# Altium footprint library Vishay.PcbLib: 7 footprints
Each footprint in its own frame and in the unit in brackets; x right, y up, seen from the top. Pads: shape width x height; smd on the part's side, far side on the other; paste and mask are expansions set on the pad; w line width, h text height; cw(c..) or ccw(c..) is an arc to the next point about the centre after c.
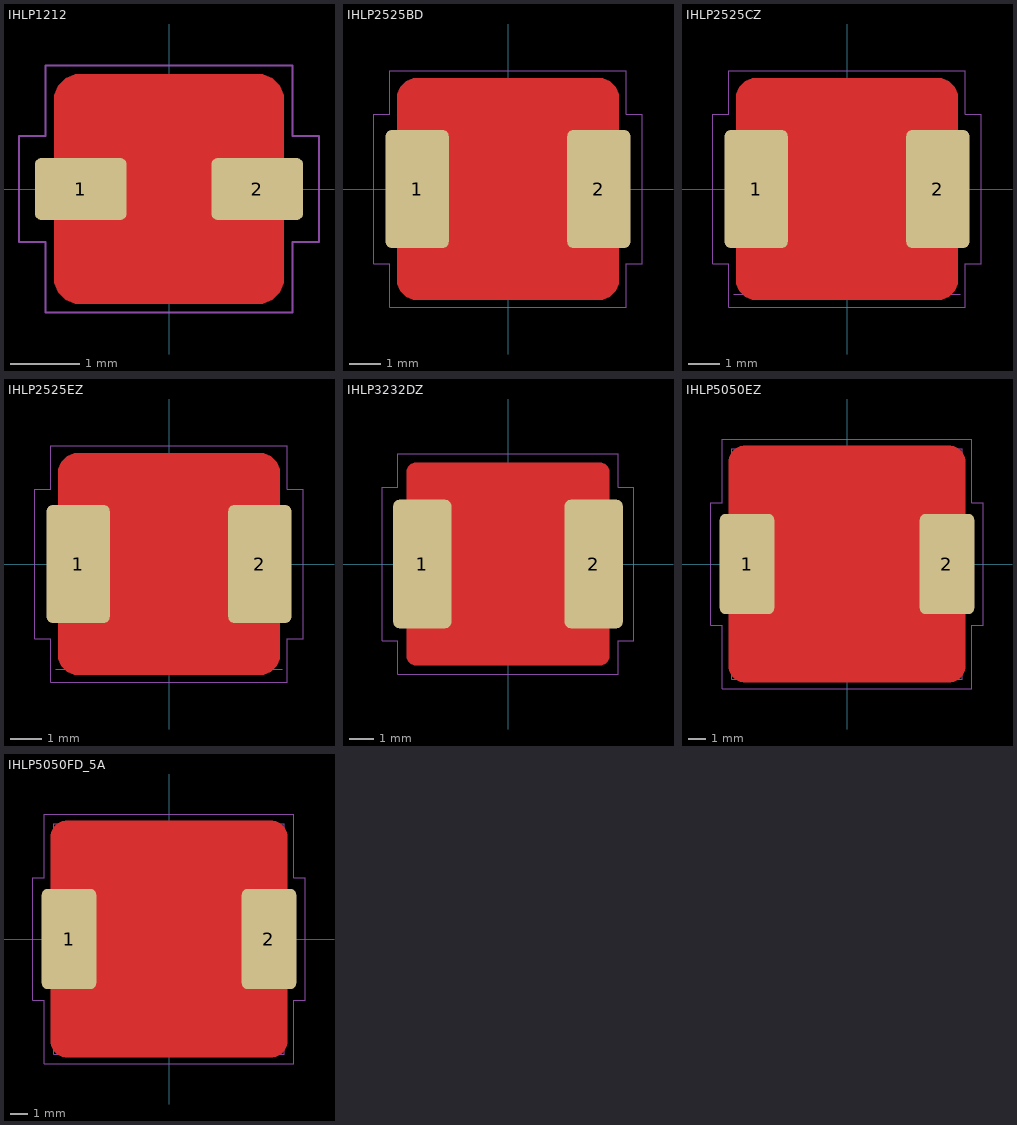
[diagram p0: the footprints below, top view; thin cyan lines are the x and y axes]

## IHLP1212 [mil] "Low Profile, High Current IHLP® Inductors"
pads (2):
  rrect20% 52x35 smd paste-5 mask+2: 1(-50,0) 2(50,0)
Top Layer:
  pour cut-out: -50,65 -52.98,65 -58.5,62.72 -62.72,58.5 -65,52.98 -65,50 -65,-50 -65,-52.98 -62.72,-58.5 -58.5,-62.72 -52.98,-65 -50,-65 50,-65 52.98,-65 58.5,-62.72 62.72,-58.5 65,-52.98 65,-50 65,50 65,52.98 62.72,58.5 58.5,62.72 52.98,65 50,65
Top Component Outline:
  lines w1: -85,-30 -70,-30 -70,-70 70,-70 70,-30 85,-30 85,30 70,30 70,70 -70,70 -70,30 -85,30 -85,-30
Top 3D Body (Mech16):
  lines w1: -65,-10 -30,-10 -30,10 -65,10 -65,-10 ; -59.06,-47.24 ccw(c-47.24,-47.24) -47.24,-59.06 47.24,-59.06 ccw(c47.24,-47.24) 59.06,-47.24 59.06,47.24 ccw(c47.24,47.24) 47.24,59.06 -47.24,59.06 ccw(c-47.24,47.24) -59.06,47.24 -59.06,-47.24 ; 30,-10 65,-10 65,10 30,10 30,-10
3D body: height 30, standoff 0, extent 30,-10 65,10
3D body: height 30, standoff 0, extent -65,-10 -30,10
3D body: height 47, standoff 1, extent -59.06,-59.06 59.06,59.06

## IHLP2525BD [mil] "Low Profile, High Current IHLP® Inductors"
pads (2):
  rrect20% 80x150 smd paste-200 mask+2: 1(-115,0) 2(115,0)
Top Layer:
  pour cut-out: -115,140 -119.97,140 -129.16,136.19 -136.19,129.16 -140,119.97 -140,115 -140,-115 -140,-119.97 -136.19,-129.16 -129.16,-136.19 -119.97,-140 -115,-140 115,-140 119.97,-140 129.16,-136.19 136.19,-129.16 140,-119.97 140,-115 140,115 140,119.97 136.19,129.16 129.16,136.19 119.97,140 115,140
Top Paste:
  rectangle: -145,7 -85,65
  rectangle: -145,-65 -85,-7
  rectangle: 85,-65 145,-7
  rectangle: 85,7 145,65
Top Component Outline:
  lines w1: -170,-95 -170,95 -150,95 -150,150 150,150 150,95 170,95 170,-95 150,-95 150,-150 -150,-150 -150,-95 -170,-95
3D body "IHLP2525BD (1.5-10uH).STEP": height 89.07, standoff -0.43, extent -137.3,-131.3 137.3,131.3

## IHLP2525CZ [mil] "High Current IHLP® Inductors"
pads (2):
  rrect20% 80x150 smd paste-200 mask+2: 1(-115,0) 2(115,0)
Top Layer:
  pour cut-out: -115,140 -119.97,140 -129.16,136.19 -136.19,129.16 -140,119.97 -140,115 -140,-115 -140,-119.97 -136.19,-129.16 -129.16,-136.19 -119.97,-140 -115,-140 115,-140 119.97,-140 129.16,-136.19 136.19,-129.16 140,-119.97 140,-115 140,115 140,119.97 136.19,129.16 129.16,136.19 119.97,140 115,140
Top Paste:
  rectangle: 85,7 145,65
  rectangle: 85,-65 145,-7
  rectangle: -145,-65 -85,-7
  rectangle: -145,7 -85,65
Top Component Outline:
  lines w1: -170,-95 -150,-95 -150,-150 150,-150 150,-95 170,-95 170,95 150,95 150,150 -150,150 -150,95 -170,95 -170,-95
Top 3D Body (Mech16):
  lines w1: -143.3,-133.3 143.3,-133.3
3D body "IHLP2525CZ.STEP": height 113.07, standoff -0.43, extent -139.3,-131.3 139.3,131.3

## IHLP2525EZ [mil] "High Current IHLP® Inductors"
pads (2):
  rrect20% 80x150 smd paste-200 mask+2: 1(-115,0) 2(115,0)
Top Layer:
  pour cut-out: -115,140 -119.97,140 -129.16,136.19 -136.19,129.16 -140,119.97 -140,115 -140,-115 -140,-119.97 -136.19,-129.16 -129.16,-136.19 -119.97,-140 -115,-140 115,-140 119.97,-140 129.16,-136.19 136.19,-129.16 140,-119.97 140,-115 140,115 140,119.97 136.19,129.16 129.16,136.19 119.97,140 115,140
Top Paste:
  rectangle: 85,7 145,65
  rectangle: 85,-65 145,-7
  rectangle: -145,-65 -85,-7
  rectangle: -145,7 -85,65
Top Component Outline:
  lines w1: -170,-95 -150,-95 -150,-150 150,-150 150,-95 170,-95 170,95 150,95 150,150 -150,150 -150,95 -170,95 -170,-95
Top 3D Body (Mech16):
  lines w1: -143.3,-133.3 143.3,-133.3
3D body "IHLP2525EZ.STEP": height 192.07, standoff -0.43, extent -143.3,-133.3 143.3,133.3

## IHLP3232DZ [mil] "Low Profile, High Current IHLP® Inductors"
pads (2):
  rrect20% 95x210 smd paste-5 mask+2: 1(-140,0) 2(140,0)
Top Layer:
  pour cut-out: -150,165 -152.98,165 -158.5,162.72 -162.72,158.5 -165,152.98 -165,150 -165,-150 -165,-152.98 -162.72,-158.5 -158.5,-162.72 -152.98,-165 -150,-165 150,-165 152.98,-165 158.5,-162.72 162.72,-158.5 165,-152.98 165,-150 165,150 165,152.98 162.72,158.5 158.5,162.72 152.98,165 150,165
Top Component Outline:
  lines w1: -205,-125 -180,-125 -180,-180 180,-180 180,-125 205,-125 205,125 180,125 180,180 -180,180 -180,125 -205,125 -205,-125
3D body "IHLP3232DZ.STEP": height 153.07, standoff -0.43, extent -169.3,-161.3 169.31,161.31

## IHLP5050EZ [mil] "Low Profile, High Current IHLP® Inductors"
pads (2):
  rrect20% 120x220 smd paste-200 mask+2: 1(-220,0) 2(220,0)
Top Layer:
  pour cut-out: -225,260 -228.45,260 -235.21,258.65 -241.58,256.02 -247.31,252.19 -252.19,247.31 -256.02,241.58 -258.65,235.21 -260,228.45 -260,225 -260,-225 -260,-228.45 -258.65,-235.21 -256.02,-241.58 -252.19,-247.31 -247.31,-252.19 -241.58,-256.02 -235.21,-258.65 -228.45,-260 -225,-260 225,-260 228.45,-260 235.21,-258.65 241.58,-256.02 247.31,-252.19 252.19,-247.31 256.02,-241.58 258.65,-235.21 260,-228.45 260,-225 260,225 260,228.45 258.65,235.21 256.02,241.58 252.19,247.31 247.31,252.19 241.58,256.02 235.21,258.65 228.45,260 225,260
Top Paste:
  rectangle: -270,-100 -227,-7
  rectangle: -213,-100 -170,-7
  rectangle: -213,7 -170,100
  rectangle: -270,7 -227,100
  rectangle: 170,7 213,100
  rectangle: 227,7 270,100
  rectangle: 227,-100 270,-7
  rectangle: 170,-100 213,-7
Top Component Outline:
  lines w1: -300,-135 -275,-135 -275,-275 275,-275 275,-135 300,-135 300,135 275,135 275,275 -275,275 -275,135 -300,135 -300,-135
Top 3D Body (Mech16):
  lines w1: -254,-254 254,-254 254,254 -254,254 -254,-254
3D body "IHLP5050EZ (0.1-1.5uH).STEP": height 192.07, standoff -0.43, extent -261.1,-251.1 261.1,251.1

## IHLP5050FD_5A [mil] "High Current IHLP® Inductors"
pads (2):
  rrect20% 120x220 smd paste-200 mask+2: 1(-220,0) 2(220,0)
Top Layer:
  pour cut-out: -225,260 -228.45,260 -235.21,258.65 -241.58,256.02 -247.31,252.19 -252.19,247.31 -256.02,241.58 -258.65,235.21 -260,228.45 -260,225 -260,-225 -260,-228.45 -258.65,-235.21 -256.02,-241.58 -252.19,-247.31 -247.31,-252.19 -241.58,-256.02 -235.21,-258.65 -228.45,-260 -225,-260 225,-260 228.45,-260 235.21,-258.65 241.58,-256.02 247.31,-252.19 252.19,-247.31 256.02,-241.58 258.65,-235.21 260,-228.45 260,-225 260,225 260,228.45 258.65,235.21 256.02,241.58 252.19,247.31 247.31,252.19 241.58,256.02 235.21,258.65 228.45,260 225,260
Top Paste:
  rectangle: 170,-100 213,-7
  rectangle: 227,-100 270,-7
  rectangle: 227,7 270,100
  rectangle: 170,7 213,100
  rectangle: -270,7 -227,100
  rectangle: -213,7 -170,100
  rectangle: -213,-100 -170,-7
  rectangle: -270,-100 -227,-7
Top Component Outline:
  lines w1: -300,-135 -300,135 -275,135 -275,275 275,275 275,135 300,135 300,-135 275,-135 275,-275 -275,-275 -275,-135 -300,-135
Top 3D Body (Mech16):
  lines w1: -254,-254 -254,254 254,254 254,-254 -254,-254
3D body "IHLP5050FD-5A (0.22-68uH).STEP": height 247.27, standoff -0.43, extent -263.1,-255.1 263.1,251.1